# EAGLE library part KSZ9131RNX (library ICs)
Gigabit Ethernet Transceiver with RGMII Support
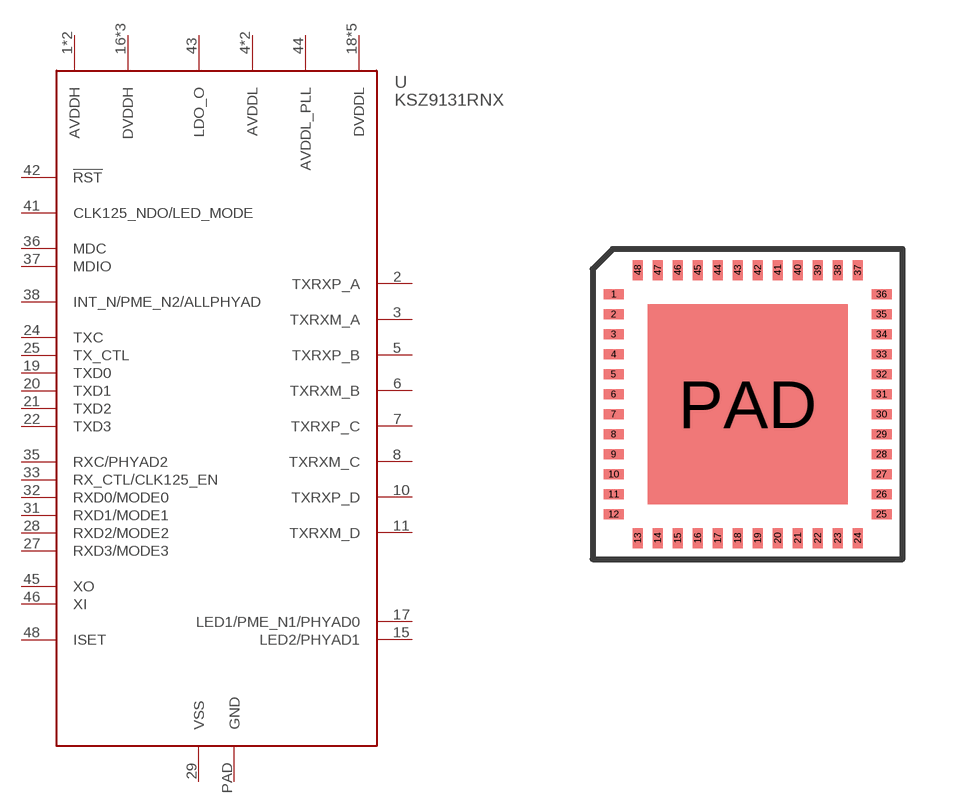
[diagram p248: symbol with the pads of QFN48_7X7; footprint QFN48_7X7]

Designator prefix U

## KSZ9131RNX (DIGIKEY: KSZ9131RNXC; HEIGHT: 1; PRICE_PER: 2.26; VALUE: Gb PHY)  [QFN48_7X7]
1  AVDDH
2  TXRXP_A
3  TXRXM_A
4  AVDDL
5  TXRXP_B
6  TXRXM_B
7  TXRXP_C
8  TXRXM_C
9  AVDDL
10  TXRXP_D
11  TXRXM_D
12  AVDDH
15  LED2/PHYAD1
16  DVDDH
17  LED1/PME_N1/PHYAD0
18  DVDDL
19  TXD0
20  TXD1
21  TXD2
22  TXD3
23  DVDDL
24  TXC
25  TX_CTL
26  DVDDL
27  RXD3/MODE3
28  RXD2/MODE2
29  VSS
30  DVDDL
31  RXD1/MODE1
32  RXD0/MODE0
33  RX_CTL/CLK125_EN
34  DVDDH
35  RXC/PHYAD2
36  MDC
37  MDIO
38  INT_N/PME_N2/ALLPHYAD
39  DVDDL
40  DVDDH
41  CLK125_NDO/LED_MODE
42  !RST
43  LDO_O
44  AVDDL_PLL
45  XO
46  XI
48  ISET
PAD  GND

## Footprint QFN48_7X7 (pad centres in mm)
smd 0.5 x 0.25: 1 -3.35,2.75; 2 -3.35,2.25; 3 -3.35,1.75; 4 -3.35,1.25; 5 -3.35,0.75; 6 -3.35,0.25; 7 -3.35,-0.25; 8 -3.35,-0.75; 9 -3.35,-1.25; 10 -3.35,-1.75; 11 -3.35,-2.25; 12 -3.35,-2.75; 25 3.35,-2.75; 26 3.35,-2.25; 27 3.35,-1.75; 28 3.35,-1.25; 29 3.35,-0.75; 30 3.35,-0.25; 31 3.35,0.25; 32 3.35,0.75; 33 3.35,1.25; 34 3.35,1.75; 35 3.35,2.25; 36 3.35,2.75
smd 0.25 x 0.5: 13 -2.75,-3.35; 14 -2.25,-3.35; 15 -1.75,-3.35; 16 -1.25,-3.35; 17 -0.75,-3.35; 18 -0.25,-3.35; 19 0.25,-3.35; 20 0.75,-3.35; 21 1.25,-3.35; 22 1.75,-3.35; 23 2.25,-3.35; 24 2.75,-3.35; 37 2.75,3.35; 38 2.25,3.35; 39 1.75,3.35; 40 1.25,3.35; 41 0.75,3.35; 42 0.25,3.35; 43 -0.25,3.35; 44 -0.75,3.35; 45 -1.25,3.35; 46 -1.75,3.35; 47 -2.25,3.35; 48 -2.75,3.35
smd 5 x 5: PAD 0,0